# Altium footprint library ComponentsPCB.PcbLib: 16 footprints
Each footprint in its own frame and in the unit in brackets; x right, y up, seen from the top. Pads: shape width x height; smd on the part's side, far side on the other; paste and mask are expansions set on the pad; w line width, h text height; cw(c..) or ccw(c..) is an arc to the next point about the centre after c.
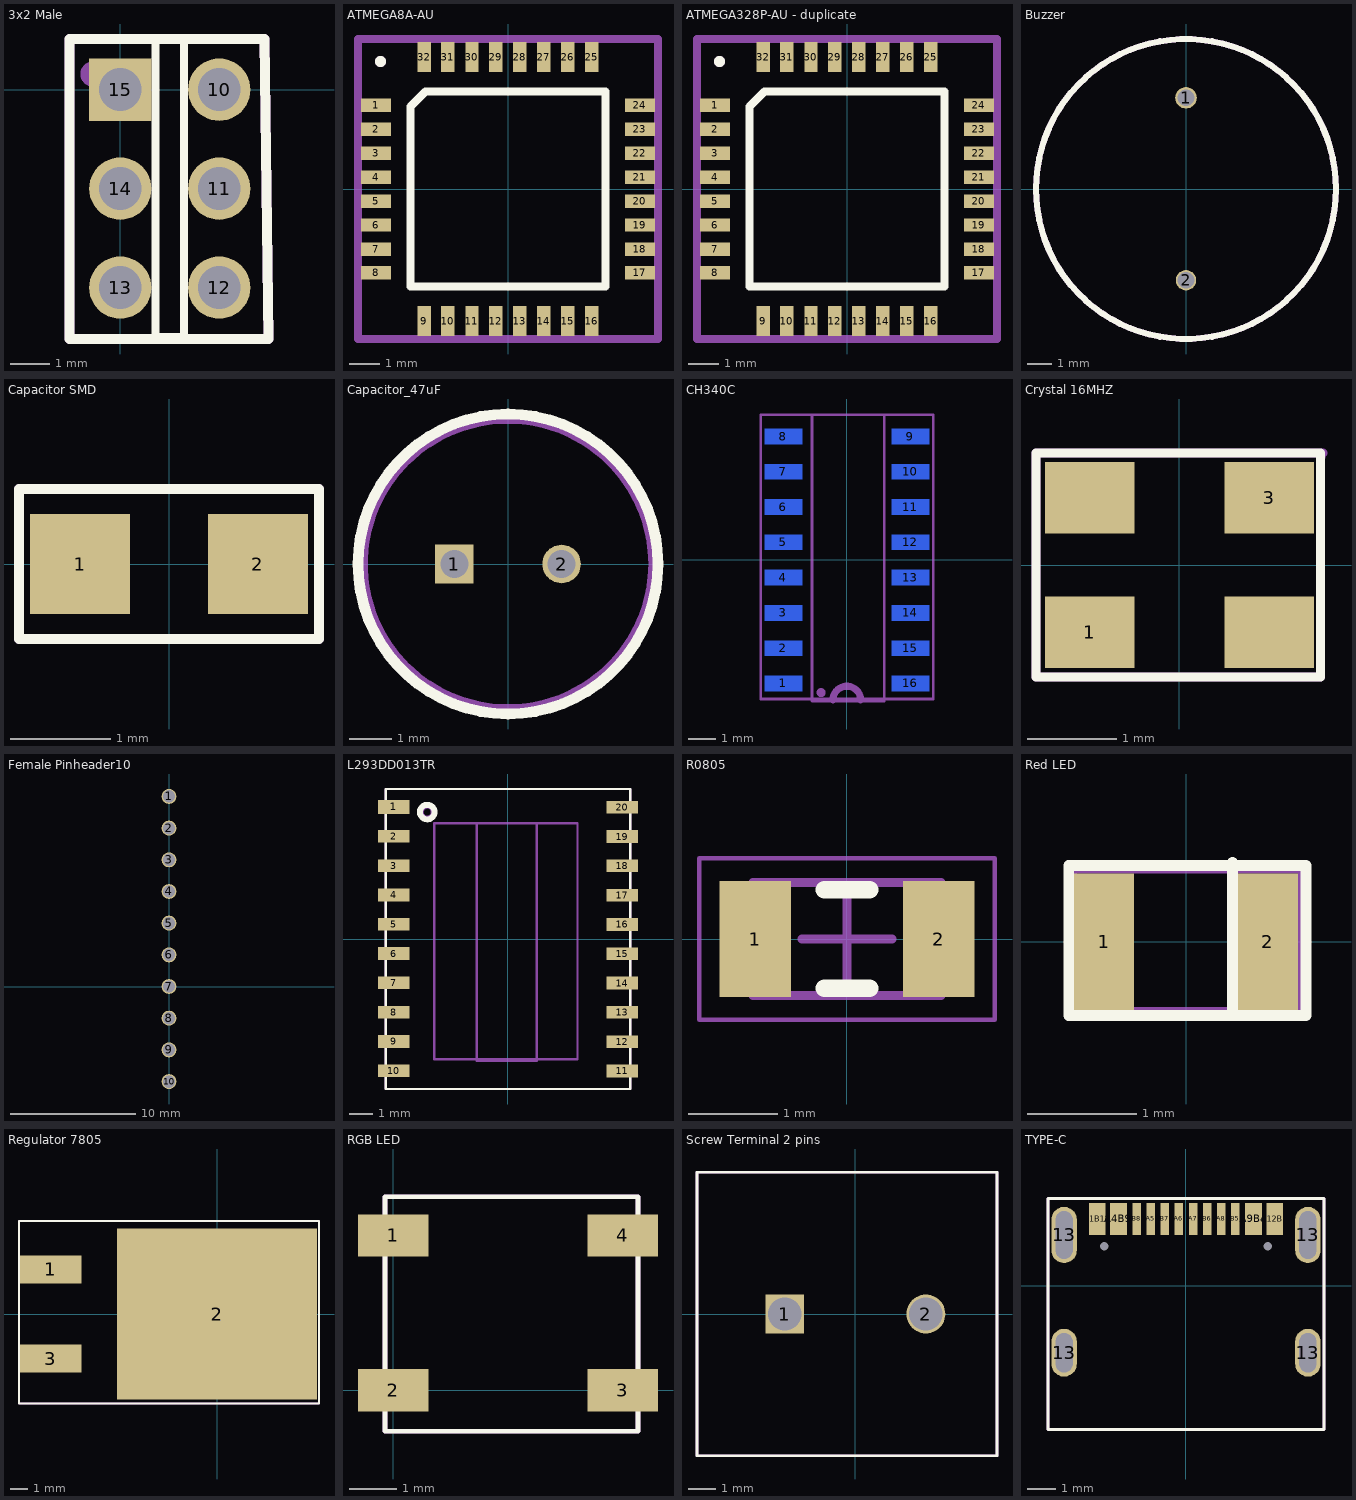
[diagram p0: the footprints below, top view; thin cyan lines are the x and y axes]

## 3x2 Male [mm]
pads (6):
  round 1.6 hole 1.1: 10(2.54,0) 11(2.54,-2.54) 12(2.54,-5.08) 13(0,-5.08) 14(0,-2.54)
  rect 1.6x1.6 hole 1.1: 15(0,0)
Top Overlay:
  lines w0.2: 0.635,1.27 1.635,1.27 1.635,-6.35 0.905,-6.35 0.905,1.27 1.905,1.27
  lines w0.254: -1.3,-6.4 3.8,-6.4 3.7,1.3 -1.3,1.3 -1.3,-6.4
Mechanical 1:
  lines w0.254: -1.3,-6.4 -1.3,1.3 3.7,1.3 3.8,-6.4 -1.3,-6.4
Mechanical 29:
  circle w0.354: c-0.7,0.4 r0.15
  text "'.Designator'" at -6.646,2.162 h1.52
3D body "TSW-103-07-S-D-LL.stp": height 8.38, standoff -2.54, extent -1.28,-6.32 3.8,1.3

## ATMEGA8A-AU [mm]
pads (32):
  rect 1x0.45 smd mask+0.02: 1(-4.4,2.8) 2(-4.4,2) 3(-4.4,1.2) 4(-4.4,0.4) 5(-4.4,-0.4) 6(-4.4,-1.2) 7(-4.4,-2) 8(-4.4,-2.8) 17(4.4,-2.8) 18(4.4,-2) 19(4.4,-1.2) 20(4.4,-0.4) 21(4.4,0.4) 22(4.4,1.2) 23(4.4,2) 24(4.4,2.8)
  rect 0.45x1 smd mask+0.02: 9(-2.8,-4.4) 10(-2,-4.4) 11(-1.2,-4.4) 12(-0.4,-4.4) 13(0.4,-4.4) 14(1.2,-4.4) 15(2,-4.4) 16(2.8,-4.4) 25(2.8,4.4) 26(2,4.4) 27(1.2,4.4) 28(0.4,4.4) 29(-0.4,4.4) 30(-1.2,4.4) 31(-2,4.4) 32(-2.8,4.4)
Top Overlay:
  circle w0.254: c-4.25,4.25 r0.056
  lines w0.254: -3.25,-3.25 3.25,-3.25 3.25,3.25 -2.75,3.25 -3.25,2.75 -3.25,-3.25
  text ".Designator" at -2.746,-2.238 h1.52
Mechanical 29:
  circle w0.254: c-4.25,4.25 r0.056
  lines w0.254: -5,-5 5,-5 5,5 -5,5 -5,-5
  text ".Designator" at -2.746,-2.238 h1.52
3D body "32A_ATM.step": height 1.2, standoff 0, extent -4.623,-4.623 4.623,4.623

## ATMEGA328P-AU - duplicate [mm]
pads (32):
  rect 1x0.45 smd mask+0.02: 1(-4.4,2.8) 2(-4.4,2) 3(-4.4,1.2) 4(-4.4,0.4) 5(-4.4,-0.4) 6(-4.4,-1.2) 7(-4.4,-2) 8(-4.4,-2.8) 17(4.4,-2.8) 18(4.4,-2) 19(4.4,-1.2) 20(4.4,-0.4) 21(4.4,0.4) 22(4.4,1.2) 23(4.4,2) 24(4.4,2.8)
  rect 0.45x1 smd mask+0.02: 9(-2.8,-4.4) 10(-2,-4.4) 11(-1.2,-4.4) 12(-0.4,-4.4) 13(0.4,-4.4) 14(1.2,-4.4) 15(2,-4.4) 16(2.8,-4.4) 25(2.8,4.4) 26(2,4.4) 27(1.2,4.4) 28(0.4,4.4) 29(-0.4,4.4) 30(-1.2,4.4) 31(-2,4.4) 32(-2.8,4.4)
Top Overlay:
  circle w0.254: c-4.25,4.25 r0.056
  lines w0.254: -3.25,-3.25 3.25,-3.25 3.25,3.25 -2.75,3.25 -3.25,2.75 -3.25,-3.25
  text ".Designator" at -2.746,-2.238 h1.52
Mechanical 29:
  circle w0.254: c-4.25,4.25 r0.056
  lines w0.254: -5,-5 5,-5 5,5 -5,5 -5,-5
  text ".Designator" at -2.746,-2.238 h1.52
3D body "TQFP32_32A_MCH.step": height 1.2, standoff 0, extent -4.623,-4.623 4.623,4.623

## Buzzer [mm]
pads (2):
  round 0.9 hole 0.7 mask+0.02: 1(0,3.8)
  round 0.85 hole 0.7 mask+0.02: 2(0,-3.8)
Top Overlay:
  circle w0.254: c0,0 r6.25
  text ".Designator" at 0.1,0.267 h0.5
Mechanical 1:
  circle w0.254: c0,0 r6.25
3D body "KXG1205CL_KNS.step": height 8.52, standoff -4.67, extent -6.236,-6.264 6.236,6.248

## Capacitor SMD [mm] "Molded Capacitor, 2-Leads, Body 2.00x1.25mm, IPC Medium Density_10V 10uF X7R ±20% 0805 Multilayer Ceramic Capacitors MLCC - SMD/SMT ROHS"
height 1.8
pads (2):
  rect 1x1 smd: 1(-0.889,0) 2(0.889,0)
Top Overlay:
  lines w0.1: -1.5,-0.75 1.5,-0.75 1.5,0.75 -1.5,0.75 -1.5,-0.75
  text ".Designator" at -1.15,1.017 h0.5
Mechanical 29:
  lines w0.1: -1.5,-0.75 1.5,-0.75 1.5,0.75 -1.5,0.75 -1.5,-0.75
  text ".Designator" at -0.9,1.017 h0.5
3D body "capacitor_negm.step": height 1.8, standoff 0, extent -1.32,-0.7 1.32,0.7

## Capacitor_47uF [mm] "47uF 16V ±20% Plugin,D6.3xL11.5mm Aluminum Electrolytic Capacitors - Leaded ROHS"
pads (2):
  rect 0.9x0.9 hole 0.65: 1(-1.25,0)
  round 0.9 hole 0.65: 2(1.25,0)
Top Overlay:
  circle w0.25: c0,0 r3.5
  text ".Designator" at 1.143,3.302 h1.52
Mechanical 29:
  circle w0.254: c0,0 r3.4
  text ".Designator" at 1.524,3.81 h1.52
3D body "User Library-CAPAER_D063_L115_P025_W005X030.STEP": height 11.51, standoff -3, extent -3.15,-3.15 3.16,3.15

## CH340C [mm]
pads (16):
  rect 1.35x0.55 smd far side mask+0.02: 1(-2.287,-4.445) 2(-2.287,-3.175) 3(-2.287,-1.905) 4(-2.287,-0.635) 5(-2.287,0.635) 6(-2.287,1.905) 7(-2.287,3.175) 8(-2.287,4.445) 9(2.288,4.445) 10(2.288,3.175) 11(2.288,1.905) 12(2.288,0.635) 13(2.288,-0.635) 14(2.288,-1.905) 15(2.288,-3.175) 16(2.288,-4.445)
Bottom Overlay:
  circle w0.254: c-0.925,-4.775 r0.035
  lines w0.1: -3,-5.045 -3,5.255 3,5.255 3,-5.045 -3,-5.045
  lines w0.254: -0.5,-5.045 cw(c0,-5.045) 0.5,-5.045
  text ".Designator" at -0.65,0.1 h0.52
Mechanical 29:
  circle w0.254: c-0.925,-4.775 r0.035
  lines w0.1: -1.256,5.221 -1.256,-5.079 1.344,-5.079 1.344,5.221 ; -3.1,-5.001 -3.1,5.225 3.113,5.225 3.113,-5.001 -3.1,-5.001
  lines w0.254: -0.5,-5.045 cw(c0,-5.045) 0.5,-5.045
  text ".Designator" at -0.675,0.067 h0.5
3D body "CH340C--3DModel-STEP-1.STEP": height -0.5, standoff -2.3, extent -3,-4.95 3,5.05

## Crystal 16MHZ [mm]
pads (4):
  rect 1x0.8 smd mask+0.02: 1(-1,-0.75) 3(1,0.75) ""(-1,0.75) ""(1,-0.75)
Top Overlay:
  lines w0.1: -1.6,-1.25 -1.6,1.25 1.575,1.25 1.575,-1.25 -1.6,-1.25
  text ".Designator" at -0.896,-0.054 h0.2
Mechanical 29:
  lines w0.1: -1.6,-1.25 -1.6,1.25 1.6,1.25 ccw(c1.66,1.19) 1.575,1.19 1.575,-1.25 -1.6,-1.25
  text ".Designator" at -0.896,-0.054 h0.2
3D body "TSX-3225 16.0000MF18X-AC3--3DModel-STEP-56544.STEP": height 0.6, standoff 0, extent -1.6,-1.25 1.6,1.25

## Female Pinheader10 [mm]
pads (10):
  round 1.2 hole 1 mask+0.02: 1(0,15.24) 2(0,12.7) 3(0,10.16) 4(0,7.62) 5(0,5.08) 6(0,2.54) 7(0,0) 8(0,-2.54) 9(0,-5.08) 10(0,-7.62)
3D body "54101-T0610LF--3DModel-STEP-554624.STEP": height 8.39, standoff -2.79, extent -1.18,-8.9 1.23,16.5

## L293DD013TR [mm]
pads (20):
  rect 1.35x0.6 smd mask+0.02: 1(-4.95,5.72)
  rect 1.35x0.55 smd mask+0.02: 2(-4.95,4.45) 3(-4.95,3.18) 4(-4.95,1.91) 5(-4.95,0.64) 6(-4.95,-0.63) 7(-4.95,-1.9) 8(-4.95,-3.17) 9(-4.95,-4.44) 10(-4.95,-5.71) 11(4.95,-5.72) 12(4.95,-4.45) 13(4.95,-3.18) 14(4.95,-1.91) 15(4.95,-0.64) 16(4.95,0.63) 17(4.95,1.9) 18(4.95,3.17) 19(4.95,4.44) 20(4.95,5.71)
Top Overlay:
  circle w0.254: c-3.5,5.5 r0.316
  lines w0.1: -5.3,-6.5 -5.3,6.5 5.3,6.5 5.3,-6.5 -5.3,-6.5
  text ".Designator" at -0.75,-0.11 h0.52
Bottom Overlay:
  lines w0.1: -3.1,-5.255 2.9,-5.255 2.9,5.045 -3.1,5.045 -3.1,-5.255
Mechanical 29:
  circle w0.254: c-3.5,5.5 r0.283
  lines w0.1: -1.356,5.011 -1.356,-5.289 1.244,-5.289 1.244,5.011 ; -5.3,-6.5 -5.3,6.5 5.3,6.5 5.3,-6.5 -5.3,-6.5 ; -3.2,-5.211 3.013,-5.211 3.013,5.015 -3.2,5.015 -3.2,-5.211
  text ".Designator" at -0.775,-0.143 h0.5
3D body "SO-20_STM.step": height 2.64, standoff 0, extent -5.317,-6.51 5.325,6.494

## R0805 [mm] "Chip Resistor, 2-Leads, Body 2.05x1.25mm, IPC Medium Density"
height 0.6
pads (2):
  rect 0.8x1.3 smd: 1(-1.025,0) 2(1.025,0)
Top Overlay:
  lines w0.2: -0.25,-0.55 0.25,-0.55 ; -0.25,0.55 0.25,0.55
Mechanical 13:
  lines w0.1: -1.05,-0.63 1.05,-0.63 1.05,0.63 -1.05,0.63 -1.05,-0.63
Mechanical 15:
  lines w0.05: -1.65,-0.9 1.65,-0.9 1.65,0.9 -1.65,0.9 -1.65,-0.9
  lines w0.1: -0.5,0 0.5,0 ; 0,-0.5 0,0.5
3D body "RESC2013X06N.step": height 0.6, standoff 0, extent -1.05,-0.63 1.05,0.63

## Red LED [mm]
pads (2):
  rect 0.55x1.25 smd mask+0.05: 1(-0.75,0) 2(0.75,0)
Top Overlay:
  lines w0.1: 0.425,-0.675 0.425,0.725 ; -1.075,-0.675 -1.075,0.7 1.1,0.7 1.1,-0.675 -1.075,-0.675
  text ".Designator" at 0.254,0.321 h0.2
Mechanical 29:
  lines w0.1: 0.425,-0.675 0.425,0.7 ; -1.05,-0.65 -1.05,0.675 1.075,0.675 1.075,-0.65 -1.05,-0.65
  text ".Designator" at 0.254,0.314 h0.18
3D body "LED_HSMH-C170_BRA.step": height 0.81, standoff 0, extent -1.003,-0.622 1.003,0.622

## Regulator 7805 [mm]
pads (3):
  rect 3.5x1.6 smd mask+0.1: 1(-9.5,2.54) 3(-9.5,-2.54)
  rect 11.4x9.75 smd mask+0.1: 2(0,0)
Top Overlay:
  lines w0.1: -11.3,-5.1 -11.3,5.3 5.8,5.3 5.8,-5.1 -11.3,-5.1
  text ".Designator" at -7.8,-0.592 h1.52
Mechanical 29:
  lines w0.1: -11.3,-5.1 5.8,-5.1 5.8,5.3 -11.3,5.3 -11.3,-5.1
  text ".Designator" at -7.646,-0.638 h1.52
3D body "L7805CD2T-TR.STEP": height 4.6, standoff -0.23, extent -10.712,-5.1 4.713,5.1

## RGB LED [mm]
pads (4):
  rect 1.5x0.9 smd mask+0.05: 1(0,3.3) 2(0,0) 3(4.9,0) 4(4.9,3.3)
Top Overlay:
  lines w0.1: -0.175,-0.875 5.225,-0.875 5.225,4.125 -0.175,4.125 -0.175,-0.875
  text ".Designator" at 2.754,1.962 h0.4
Mechanical 29:
  lines w0.1: -0.175,-0.875 5.225,-0.875 5.225,4.125 -0.175,4.125 -0.175,-0.875
  text ".Designator" at 2.754,1.912 h0.4
3D body "WS2812B--3DModel-STEP-510211.STEP": height 1.62, standoff 0, extent -0.175,-0.875 5.225,4.125

## Screw Terminal 2 pins [mm]
pads (2):
  rect 1.4x1.4 hole 1.2 mask+0.102: 1(-2.54,0)
  round 1.4 hole 1.2 mask+0.102: 2(2.54,0)
Top Overlay:
  lines w0.1: -5.7,-5.1 -5.7,5.1 5.1,5.1 5.1,-5.1 -5.7,-5.1
  text ".Designator" at 0.254,0.421 h0.5
Mechanical 29:
  lines w0.1: -5.7,-5.1 -5.7,5.1 5.1,5.1 5.1,-5.1 -5.7,-5.1
  text ".Designator" at 0.254,0.721 h0.5
3D body "CUI_DEVICES_TB004-508-02GR.step": height 14.1, standoff -3.5, extent -5.66,-5.1 5.1,5.1

## TYPE-C [mm]
pads (18):
  round 0 hole 0.3: 10(2.9,1.4) 11(-2.9,1.4)
  oval 0.9x1.7 hole 0.6 slot 1.4 at 90 deg mask+0.02: 13(-4.325,-2.375) 13(4.325,-2.375)
  oval 0.9x2 hole 0.6 slot 1.7 at 90 deg mask+0.02: 13(-4.325,1.805) 13(4.325,1.805)
  rect 0.6x1.14 smd mask+0.02: A1B12(-3.15,2.375) A4B9(-2.4,2.375) A9B4(2.4,2.375) A12B1(3.15,2.375)
  rect 0.3x1.14 smd mask+0.02: A5(-1.25,2.375) A6(-0.25,2.375) A7(0.25,2.375) A8(1.25,2.375) B5(1.75,2.375) B6(0.75,2.375) B7(-0.75,2.375) B8(-1.75,2.375)
Top Overlay:
  lines w0.1: -4.9,-5.1 -4.9,3.1 4.9,3.1 4.9,-5.1 -4.9,-5.1
  text ".Designator" at -2,-1.633 h0.5
Mechanical 1:
  lines w0.254: -4.56,1.805 -3.99,1.805 ; 3.99,1.805 4.56,1.805
Mechanical 29:
  lines w0.1: -4.9,-5.1 -4.9,3.1 4.9,3.1 4.9,-5.1 -4.9,-5.1
  text ".Designator" at -1.9,-1.533 h0.5
3D body "User Library-664121_1623983041_9594.step": height 3.31, standoff -0.95, extent -4.47,-4.95 4.47,2.8